# EAGLE library part BLADE_SIG_TOP (library ssslidar)
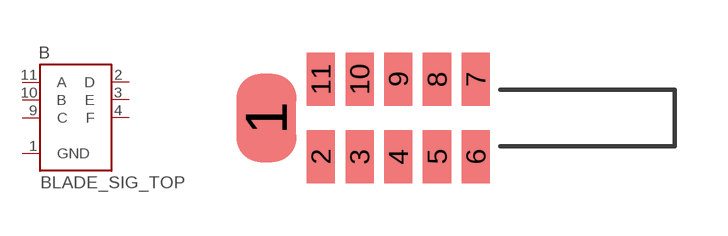
[diagram p0: symbol with the pads of BLADE; footprint BLADE]

Designator prefix B

## BLADE_SIG_TOP  [BLADE]
1  GND
2  D
3  E
4  F
9  C
10  B
11  A

## Footprint BLADE (pad centres in mm)
smd 1.7 x 2.5: 1 0.85,0
smd 0.8 x 1.5: 2 2.4,-1.1; 3 3.5,-1.1; 4 4.6,-1.1; 5 5.7,-1.1; 6 6.8,-1.1; 7 6.8,1.1; 8 5.7,1.1; 9 4.6,1.1; 10 3.5,1.1; 11 2.4,1.1